# EAGLE library part MAX11410 (library JK-adcs)
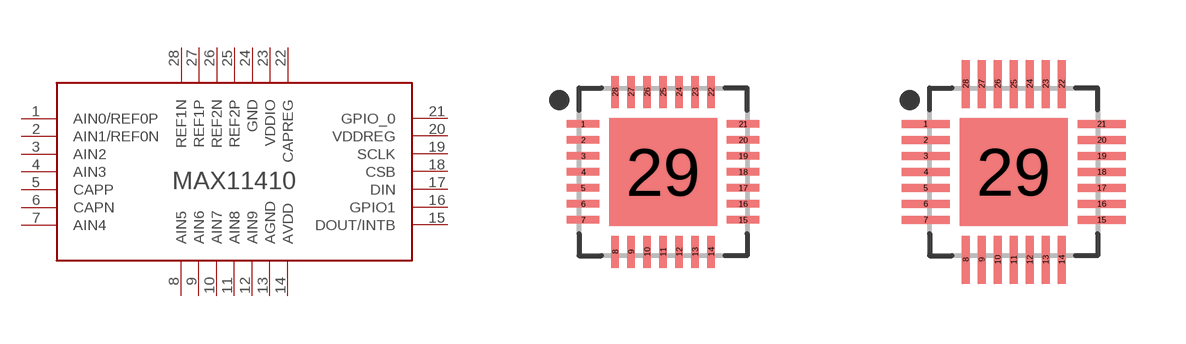
[diagram p0: symbol with the pads of 28-TQFN; footprints 28-TQFN, 28-TQFN_L]

Designator prefix -

## MAX1141028-TQFN (GENERATOR: Jake Kapala; MANUFACTURER: Maxim Integrated; MAX_ANALOG_VOLTAGE: 3.9V; MAX_DIGITAL_VOLTAGE: 3.6V; MAX_SUPPLY_VOLTAGE: 3.6V; PACKAGE: TQFN; PINS: 28)  [28-TQFN]
1  AIN0/REF0P
2  AIN1/REF0N
3  AIN2
4  AIN3
5  CAPP
6  CAPN
7  AIN4
8  AIN5
9  AIN6
10  AIN7
11  AIN8
12  AIN9
13  AGND
14  AVDD
15  DOUT/INTB
16  GPIO1
17  DIN
18  CSB
19  SCLK
20  VDDREG
21  GPIO_0
22  CAPREG
23  VDDIO
24  GND
25  REF2P
26  REF2N
27  REF1P
28  REF1N

## MAX11410 (GENERATOR: Jake Kapala; MANUFACTURER: Maxim Integrated; MAX_ANALOG_DEVICE: 3.6V; MAX_DIGITAL_VOLTAGE: 3.6V; MAX_SUPPLY: 3.3V; PACKAGE: TQFN; PINS: 28; TYPE: Delta-Sigma)  [28-TQFN_L]
Pads as for 28-TQFN

## Footprint 28-TQFN (pad centres in mm)
28-QFN, 0.40 mm pitch, 4.10 X 4.10 X 0.80 mm body, 2.70 X 2.70 mm thermal pad 28-pin QFN package with 0.40 mm pitch with body size 4.10 X 4.10 X 0.80 mm and thermal pad size 2.70 X 2.70 mm
smd 0.81 x 0.187: 1 -2,1.2; 2 -2,0.8; 3 -2,0.4; 4 -2,0; 5 -2,-0.4; 6 -2,-0.8; 7 -2,-1.2; 15 2,-1.2; 16 2,-0.8; 17 2,-0.4; 18 2,0; 19 2,0.4; 20 2,0.8; 21 2,1.2
smd 0.187 x 0.81: 8 -1.2,-2; 9 -0.8,-2; 10 -0.4,-2; 11 0,-2; 12 0.4,-2; 13 0.8,-2; 14 1.2,-2; 22 1.2,2; 23 0.8,2; 24 0.4,2; 25 0,2; 26 -0.4,2; 27 -0.8,2; 28 -1.2,2
smd 2.7 x 2.7: 29 0,0

## Footprint 28-TQFN_L (pad centres in mm)
28-QFN, 0.40 mm pitch, 4.10 X 4.10 X 0.80 mm body, 2.70 X 2.70 mm thermal pad 28-pin QFN package with 0.40 mm pitch with body size 4.10 X 4.10 X 0.80 mm and thermal pad size 2.70 X 2.70 mm
smd 1.2 x 0.2: 1 -2.2,1.2; 2 -2.2,0.8; 3 -2.2,0.4; 4 -2.2,0; 5 -2.2,-0.4; 6 -2.2,-0.8; 7 -2.2,-1.2; 15 2.2,-1.2; 16 2.2,-0.8; 17 2.2,-0.4; 18 2.2,0; 19 2.2,0.4; 20 2.2,0.8; 21 2.2,1.2
smd 0.2 x 1.2: 8 -1.2,-2.2; 9 -0.8,-2.2; 10 -0.4,-2.2; 11 0,-2.2; 12 0.4,-2.2; 13 0.8,-2.2; 14 1.2,-2.2; 22 1.2,2.2; 23 0.8,2.2; 24 0.4,2.2; 25 0,2.2; 26 -0.4,2.2; 27 -0.8,2.2; 28 -1.2,2.2
smd 2.7 x 2.7: 29 0,0